# Altium footprint library gateway.PcbLib: 1 footprints
Each footprint in its own frame and in the unit in brackets; x right, y up, seen from the top. Pads: shape width x height; smd on the part's side, far side on the other; paste and mask are expansions set on the pad; w line width, h text height; cw(c..) or ccw(c..) is an arc to the next point about the centre after c.
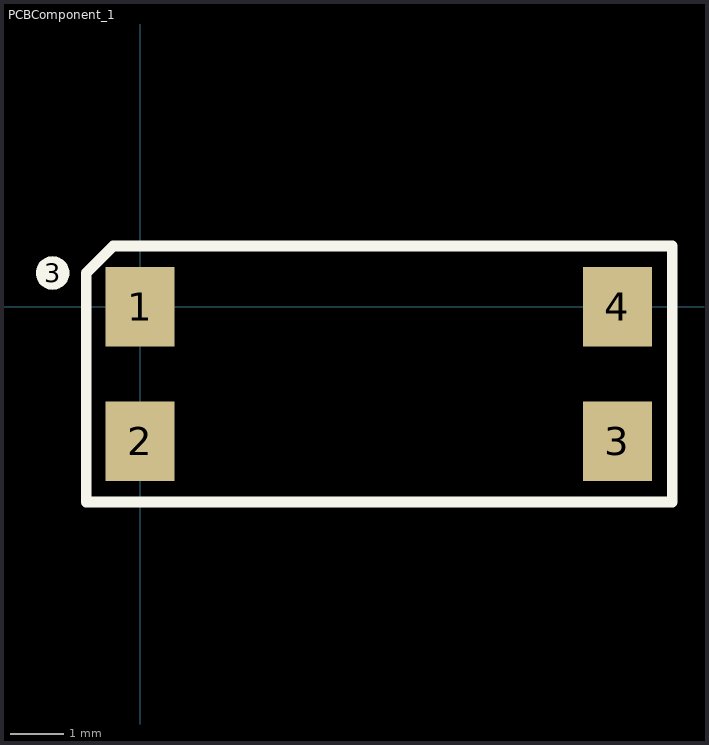
[diagram p0: the footprint, top view; thin cyan lines are the x and y axes]

## PCBComponent_1 [mm]
pads (5):
  rect 1.3x1.5 smd: 1(0,0) 2(0,-2.54) 3(9,-2.54) 4(9,0)
  round 0.635 on Top Overlay: 3(-1.651,0.635)
Top Overlay:
  lines w0.203: -1.016,-3.683 -1.016,0.635 -0.508,1.143 10.033,1.143 10.033,-3.683 -1.016,-3.683